# EAGLE library part G4W-2214P-US-HP (library temp_library)
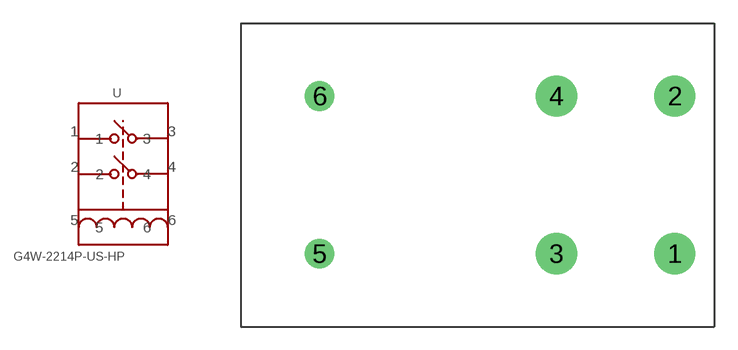
[diagram p0: symbol with the pads of G4W-2214P-US-HP; footprint G4W-2214P-US-HP]

Designator prefix -

## G4W-2214P-US-HP  [G4W-2214P-US-HP]
1  1
2  2
3  3
4  4
5  5  pwr
6  6  pwr

## Footprint G4W-2214P-US-HP (pad centres in mm)
drill 1.778: 1 12.7,-5.08; 2 12.7,5.08; 3 5.08,-5.08; 4 5.08,5.08
drill 1.27: 5 -10.16,-5.08; 6 -10.16,5.08